# Altium footprint library SOP65P640X110-16N.PcbLib: 1 footprints
Each footprint in its own frame and in the unit in brackets; x right, y up, seen from the top. Pads: shape width x height; smd on the part's side, far side on the other; paste and mask are expansions set on the pad; w line width, h text height; cw(c..) or ccw(c..) is an arc to the next point about the centre after c.
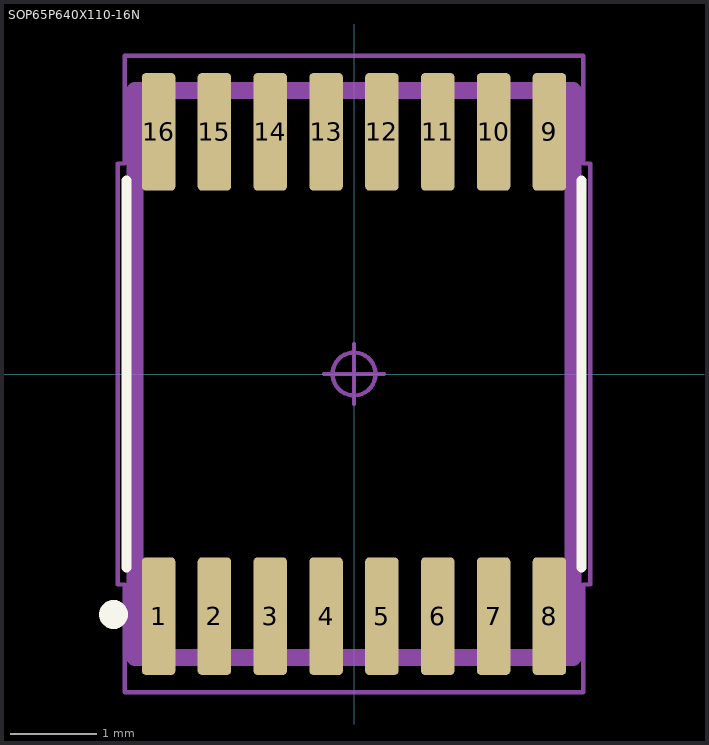
[diagram p0: the footprint, top view; thin cyan lines are the x and y axes]

## SOP65P640X110-16N [mm] "Small Outline Pkg (SOP), 0.65 mm pitch; 16 pin, 5.00 mm L X 4.40 mm W X 1.10 mm H body"
height 1.1
pads (16):
  rrect25% 0.39x1.37 smd: 1(-2.275,-2.82) 2(-1.625,-2.82) 3(-0.975,-2.82) 4(-0.325,-2.82) 5(0.325,-2.82) 6(0.975,-2.82) 7(1.625,-2.82) 8(2.275,-2.82) 9(2.275,2.82) 10(1.625,2.82) 11(0.975,2.82) 12(0.325,2.82) 13(-0.325,2.82) 14(-0.975,2.82) 15(-1.625,2.82) 16(-2.275,2.82)
Top Overlay:
  circle w0.2: c-2.8,-2.8 r0.068
  lines w0.12: -2.65,-2.25 -2.65,2.25 ; 2.65,-2.25 2.65,2.25
Top 3D Body:
  lines w0.2: -2.55,-3.3 -2.55,3.3 2.55,3.3 2.55,-3.3 -2.55,-3.3
Top Courtyard:
  circle w0.05: c0,0 r0.25
  lines w0.05: -0.35,0 0.35,0 ; 0,-0.35 0,0.35 ; -2.75,-2.45 -2.75,2.45 -2.67,2.45 -2.67,3.705 2.67,3.705 2.67,2.45 2.75,2.45 2.75,-2.45 2.67,-2.45 2.67,-3.705 -2.67,-3.705 -2.67,-2.45 -2.75,-2.45
3D body "SOP65P640X110-16.STEP": height 1.1, standoff 0, extent -2.55,-3.3 2.55,3.3